# Altium schematic symbol library Resistor - Surface Mount - 0201.SchLib: 301 symbols (part 1 of 5)
Pins are listed as number, name and electrical type; pins without a type are passive.

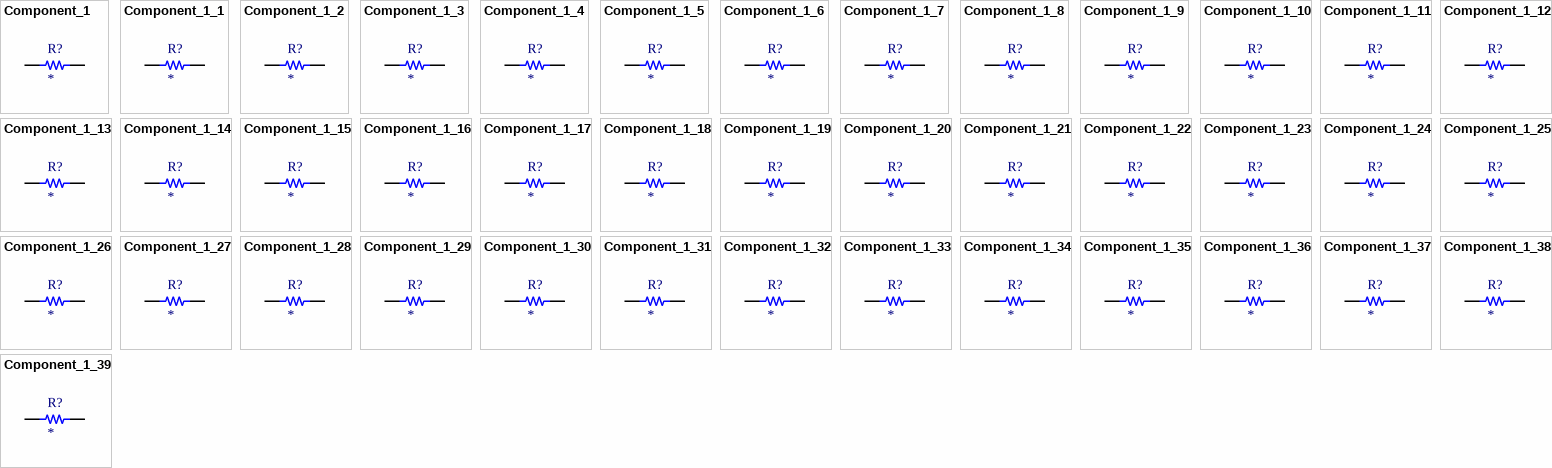
[diagram p0: symbols Component_1 to Component_1_39]

## Component_1
designator R?
Manufacturer: Yageo; Power (Watt): 0.05W; ComponentLink1Description: Datasheet; ComponentLink1URL: https://www.yageo.com/upload/media/product/products/datasheet/rchip/PYu-RC_Group_51_RoHS_L_12.pdf; ComponentLink2Description: Digikey link; ComponentLink2URL: *; ComponentLink3Description: LCSC link; ComponentLink3URL: *; Value: *; Part Number: *; Package: 0201 (0603 Metric); Tolerance: *; Operating Temperature: -55°C ~ 125°C
footprint R0201
pins: 1, 2

## Component_1_1
designator R?
Manufacturer: Yageo; Power (Watt): 0.05W; ComponentLink1Description: Datasheet; ComponentLink1URL: https://www.yageo.com/upload/media/product/products/datasheet/rchip/PYu-RC_Group_51_RoHS_L_12.pdf; ComponentLink2Description: Digikey link; ComponentLink2URL: *; ComponentLink3Description: LCSC link; ComponentLink3URL: *; Value: *; Part Number: *; Package: 0201 (0603 Metric); Tolerance: *; Operating Temperature: -55°C ~ 125°C
footprint R0201
pins: 1, 2

## Component_1_2
designator R?
Manufacturer: Yageo; Power (Watt): 0.05W; ComponentLink1Description: Datasheet; ComponentLink1URL: https://www.yageo.com/upload/media/product/products/datasheet/rchip/PYu-RC_Group_51_RoHS_L_12.pdf; ComponentLink2Description: Digikey link; ComponentLink2URL: *; ComponentLink3Description: LCSC link; ComponentLink3URL: *; Value: *; Part Number: *; Package: 0201 (0603 Metric); Tolerance: *; Operating Temperature: -55°C ~ 125°C
footprint R0201
pins: 1, 2

## Component_1_3
designator R?
Manufacturer: Yageo; Power (Watt): 0.05W; ComponentLink1Description: Datasheet; ComponentLink1URL: https://www.yageo.com/upload/media/product/products/datasheet/rchip/PYu-RC_Group_51_RoHS_L_12.pdf; ComponentLink2Description: Digikey link; ComponentLink2URL: *; ComponentLink3Description: LCSC link; ComponentLink3URL: *; Value: *; Part Number: *; Package: 0201 (0603 Metric); Tolerance: *; Operating Temperature: -55°C ~ 125°C
footprint R0201
pins: 1, 2

## Component_1_4
designator R?
Manufacturer: Yageo; Power (Watt): 0.05W; ComponentLink1Description: Datasheet; ComponentLink1URL: https://www.yageo.com/upload/media/product/products/datasheet/rchip/PYu-RC_Group_51_RoHS_L_12.pdf; ComponentLink2Description: Digikey link; ComponentLink2URL: *; ComponentLink3Description: LCSC link; ComponentLink3URL: *; Value: *; Part Number: *; Package: 0201 (0603 Metric); Tolerance: *; Operating Temperature: -55°C ~ 125°C
footprint R0201
pins: 1, 2

## Component_1_5
designator R?
Manufacturer: Yageo; Power (Watt): 0.05W; ComponentLink1Description: Datasheet; ComponentLink1URL: https://www.yageo.com/upload/media/product/products/datasheet/rchip/PYu-RC_Group_51_RoHS_L_12.pdf; ComponentLink2Description: Digikey link; ComponentLink2URL: *; ComponentLink3Description: LCSC link; ComponentLink3URL: *; Value: *; Part Number: *; Package: 0201 (0603 Metric); Tolerance: *; Operating Temperature: -55°C ~ 125°C
footprint R0201
pins: 1, 2

## Component_1_6
designator R?
Manufacturer: Yageo; Power (Watt): 0.05W; ComponentLink1Description: Datasheet; ComponentLink1URL: https://www.yageo.com/upload/media/product/products/datasheet/rchip/PYu-RC_Group_51_RoHS_L_12.pdf; ComponentLink2Description: Digikey link; ComponentLink2URL: *; ComponentLink3Description: LCSC link; ComponentLink3URL: *; Value: *; Part Number: *; Package: 0201 (0603 Metric); Tolerance: *; Operating Temperature: -55°C ~ 125°C
footprint R0201
pins: 1, 2

## Component_1_7
designator R?
Manufacturer: Yageo; Power (Watt): 0.05W; ComponentLink1Description: Datasheet; ComponentLink1URL: https://www.yageo.com/upload/media/product/products/datasheet/rchip/PYu-RC_Group_51_RoHS_L_12.pdf; ComponentLink2Description: Digikey link; ComponentLink2URL: *; ComponentLink3Description: LCSC link; ComponentLink3URL: *; Value: *; Part Number: *; Package: 0201 (0603 Metric); Tolerance: *; Operating Temperature: -55°C ~ 125°C
footprint R0201
pins: 1, 2

## Component_1_8
designator R?
Manufacturer: Yageo; Power (Watt): 0.05W; ComponentLink1Description: Datasheet; ComponentLink1URL: https://www.yageo.com/upload/media/product/products/datasheet/rchip/PYu-RC_Group_51_RoHS_L_12.pdf; ComponentLink2Description: Digikey link; ComponentLink2URL: *; ComponentLink3Description: LCSC link; ComponentLink3URL: *; Value: *; Part Number: *; Package: 0201 (0603 Metric); Tolerance: *; Operating Temperature: -55°C ~ 125°C
footprint R0201
pins: 1, 2

## Component_1_9
designator R?
Manufacturer: Yageo; Power (Watt): 0.05W; ComponentLink1Description: Datasheet; ComponentLink1URL: https://www.yageo.com/upload/media/product/products/datasheet/rchip/PYu-RC_Group_51_RoHS_L_12.pdf; ComponentLink2Description: Digikey link; ComponentLink2URL: *; ComponentLink3Description: LCSC link; ComponentLink3URL: *; Value: *; Part Number: *; Package: 0201 (0603 Metric); Tolerance: *; Operating Temperature: -55°C ~ 125°C
footprint R0201
pins: 1, 2

## Component_1_10
designator R?
Manufacturer: Yageo; Power (Watt): 0.05W; ComponentLink1Description: Datasheet; ComponentLink1URL: https://www.yageo.com/upload/media/product/products/datasheet/rchip/PYu-RC_Group_51_RoHS_L_12.pdf; ComponentLink2Description: Digikey link; ComponentLink2URL: *; ComponentLink3Description: LCSC link; ComponentLink3URL: *; Value: *; Part Number: *; Package: 0201 (0603 Metric); Tolerance: *; Operating Temperature: -55°C ~ 125°C
footprint R0201
pins: 1, 2

## Component_1_11
designator R?
Manufacturer: Yageo; Power (Watt): 0.05W; ComponentLink1Description: Datasheet; ComponentLink1URL: https://www.yageo.com/upload/media/product/products/datasheet/rchip/PYu-RC_Group_51_RoHS_L_12.pdf; ComponentLink2Description: Digikey link; ComponentLink2URL: *; ComponentLink3Description: LCSC link; ComponentLink3URL: *; Value: *; Part Number: *; Package: 0201 (0603 Metric); Tolerance: *; Operating Temperature: -55°C ~ 125°C
footprint R0201
pins: 1, 2

## Component_1_12
designator R?
Manufacturer: Yageo; Power (Watt): 0.05W; ComponentLink1Description: Datasheet; ComponentLink1URL: https://www.yageo.com/upload/media/product/products/datasheet/rchip/PYu-RC_Group_51_RoHS_L_12.pdf; ComponentLink2Description: Digikey link; ComponentLink2URL: *; ComponentLink3Description: LCSC link; ComponentLink3URL: *; Value: *; Part Number: *; Package: 0201 (0603 Metric); Tolerance: *; Operating Temperature: -55°C ~ 125°C
footprint R0201
pins: 1, 2

## Component_1_13
designator R?
Manufacturer: Yageo; Power (Watt): 0.05W; ComponentLink1Description: Datasheet; ComponentLink1URL: https://www.yageo.com/upload/media/product/products/datasheet/rchip/PYu-RC_Group_51_RoHS_L_12.pdf; ComponentLink2Description: Digikey link; ComponentLink2URL: *; ComponentLink3Description: LCSC link; ComponentLink3URL: *; Value: *; Part Number: *; Package: 0201 (0603 Metric); Tolerance: *; Operating Temperature: -55°C ~ 125°C
footprint R0201
pins: 1, 2

## Component_1_14
designator R?
Manufacturer: Yageo; Power (Watt): 0.05W; ComponentLink1Description: Datasheet; ComponentLink1URL: https://www.yageo.com/upload/media/product/products/datasheet/rchip/PYu-RC_Group_51_RoHS_L_12.pdf; ComponentLink2Description: Digikey link; ComponentLink2URL: *; ComponentLink3Description: LCSC link; ComponentLink3URL: *; Value: *; Part Number: *; Package: 0201 (0603 Metric); Tolerance: *; Operating Temperature: -55°C ~ 125°C
footprint R0201
pins: 1, 2

## Component_1_15
designator R?
Manufacturer: Yageo; Power (Watt): 0.05W; ComponentLink1Description: Datasheet; ComponentLink1URL: https://www.yageo.com/upload/media/product/products/datasheet/rchip/PYu-RC_Group_51_RoHS_L_12.pdf; ComponentLink2Description: Digikey link; ComponentLink2URL: *; ComponentLink3Description: LCSC link; ComponentLink3URL: *; Value: *; Part Number: *; Package: 0201 (0603 Metric); Tolerance: *; Operating Temperature: -55°C ~ 125°C
footprint R0201
pins: 1, 2

## Component_1_16
designator R?
Manufacturer: Yageo; Power (Watt): 0.05W; ComponentLink1Description: Datasheet; ComponentLink1URL: https://www.yageo.com/upload/media/product/products/datasheet/rchip/PYu-RC_Group_51_RoHS_L_12.pdf; ComponentLink2Description: Digikey link; ComponentLink2URL: *; ComponentLink3Description: LCSC link; ComponentLink3URL: *; Value: *; Part Number: *; Package: 0201 (0603 Metric); Tolerance: *; Operating Temperature: -55°C ~ 125°C
footprint R0201
pins: 1, 2

## Component_1_17
designator R?
Manufacturer: Yageo; Power (Watt): 0.05W; ComponentLink1Description: Datasheet; ComponentLink1URL: https://www.yageo.com/upload/media/product/products/datasheet/rchip/PYu-RC_Group_51_RoHS_L_12.pdf; ComponentLink2Description: Digikey link; ComponentLink2URL: *; ComponentLink3Description: LCSC link; ComponentLink3URL: *; Value: *; Part Number: *; Package: 0201 (0603 Metric); Tolerance: *; Operating Temperature: -55°C ~ 125°C
footprint R0201
pins: 1, 2

## Component_1_18
designator R?
Manufacturer: Yageo; Power (Watt): 0.05W; ComponentLink1Description: Datasheet; ComponentLink1URL: https://www.yageo.com/upload/media/product/products/datasheet/rchip/PYu-RC_Group_51_RoHS_L_12.pdf; ComponentLink2Description: Digikey link; ComponentLink2URL: *; ComponentLink3Description: LCSC link; ComponentLink3URL: *; Value: *; Part Number: *; Package: 0201 (0603 Metric); Tolerance: *; Operating Temperature: -55°C ~ 125°C
footprint R0201
pins: 1, 2

## Component_1_19
designator R?
Manufacturer: Yageo; Power (Watt): 0.05W; ComponentLink1Description: Datasheet; ComponentLink1URL: https://www.yageo.com/upload/media/product/products/datasheet/rchip/PYu-RC_Group_51_RoHS_L_12.pdf; ComponentLink2Description: Digikey link; ComponentLink2URL: *; ComponentLink3Description: LCSC link; ComponentLink3URL: *; Value: *; Part Number: *; Package: 0201 (0603 Metric); Tolerance: *; Operating Temperature: -55°C ~ 125°C
footprint R0201
pins: 1, 2

## Component_1_20
designator R?
Manufacturer: Yageo; Power (Watt): 0.05W; ComponentLink1Description: Datasheet; ComponentLink1URL: https://www.yageo.com/upload/media/product/products/datasheet/rchip/PYu-RC_Group_51_RoHS_L_12.pdf; ComponentLink2Description: Digikey link; ComponentLink2URL: *; ComponentLink3Description: LCSC link; ComponentLink3URL: *; Value: *; Part Number: *; Package: 0201 (0603 Metric); Tolerance: *; Operating Temperature: -55°C ~ 125°C
footprint R0201
pins: 1, 2

## Component_1_21
designator R?
Manufacturer: Yageo; Power (Watt): 0.05W; ComponentLink1Description: Datasheet; ComponentLink1URL: https://www.yageo.com/upload/media/product/products/datasheet/rchip/PYu-RC_Group_51_RoHS_L_12.pdf; ComponentLink2Description: Digikey link; ComponentLink2URL: *; ComponentLink3Description: LCSC link; ComponentLink3URL: *; Value: *; Part Number: *; Package: 0201 (0603 Metric); Tolerance: *; Operating Temperature: -55°C ~ 125°C
footprint R0201
pins: 1, 2

## Component_1_22
designator R?
Manufacturer: Yageo; Power (Watt): 0.05W; ComponentLink1Description: Datasheet; ComponentLink1URL: https://www.yageo.com/upload/media/product/products/datasheet/rchip/PYu-RC_Group_51_RoHS_L_12.pdf; ComponentLink2Description: Digikey link; ComponentLink2URL: *; ComponentLink3Description: LCSC link; ComponentLink3URL: *; Value: *; Part Number: *; Package: 0201 (0603 Metric); Tolerance: *; Operating Temperature: -55°C ~ 125°C
footprint R0201
pins: 1, 2

## Component_1_23
designator R?
Manufacturer: Yageo; Power (Watt): 0.05W; ComponentLink1Description: Datasheet; ComponentLink1URL: https://www.yageo.com/upload/media/product/products/datasheet/rchip/PYu-RC_Group_51_RoHS_L_12.pdf; ComponentLink2Description: Digikey link; ComponentLink2URL: *; ComponentLink3Description: LCSC link; ComponentLink3URL: *; Value: *; Part Number: *; Package: 0201 (0603 Metric); Tolerance: *; Operating Temperature: -55°C ~ 125°C
footprint R0201
pins: 1, 2

## Component_1_24
designator R?
Manufacturer: Yageo; Power (Watt): 0.05W; ComponentLink1Description: Datasheet; ComponentLink1URL: https://www.yageo.com/upload/media/product/products/datasheet/rchip/PYu-RC_Group_51_RoHS_L_12.pdf; ComponentLink2Description: Digikey link; ComponentLink2URL: *; ComponentLink3Description: LCSC link; ComponentLink3URL: *; Value: *; Part Number: *; Package: 0201 (0603 Metric); Tolerance: *; Operating Temperature: -55°C ~ 125°C
footprint R0201
pins: 1, 2

## Component_1_25
designator R?
Manufacturer: Yageo; Power (Watt): 0.05W; ComponentLink1Description: Datasheet; ComponentLink1URL: https://www.yageo.com/upload/media/product/products/datasheet/rchip/PYu-RC_Group_51_RoHS_L_12.pdf; ComponentLink2Description: Digikey link; ComponentLink2URL: *; ComponentLink3Description: LCSC link; ComponentLink3URL: *; Value: *; Part Number: *; Package: 0201 (0603 Metric); Tolerance: *; Operating Temperature: -55°C ~ 125°C
footprint R0201
pins: 1, 2

## Component_1_26
designator R?
Manufacturer: Yageo; Power (Watt): 0.05W; ComponentLink1Description: Datasheet; ComponentLink1URL: https://www.yageo.com/upload/media/product/products/datasheet/rchip/PYu-RC_Group_51_RoHS_L_12.pdf; ComponentLink2Description: Digikey link; ComponentLink2URL: *; ComponentLink3Description: LCSC link; ComponentLink3URL: *; Value: *; Part Number: *; Package: 0201 (0603 Metric); Tolerance: *; Operating Temperature: -55°C ~ 125°C
footprint R0201
pins: 1, 2

## Component_1_27
designator R?
Manufacturer: Yageo; Power (Watt): 0.05W; ComponentLink1Description: Datasheet; ComponentLink1URL: https://www.yageo.com/upload/media/product/products/datasheet/rchip/PYu-RC_Group_51_RoHS_L_12.pdf; ComponentLink2Description: Digikey link; ComponentLink2URL: *; ComponentLink3Description: LCSC link; ComponentLink3URL: *; Value: *; Part Number: *; Package: 0201 (0603 Metric); Tolerance: *; Operating Temperature: -55°C ~ 125°C
footprint R0201
pins: 1, 2

## Component_1_28
designator R?
Manufacturer: Yageo; Power (Watt): 0.05W; ComponentLink1Description: Datasheet; ComponentLink1URL: https://www.yageo.com/upload/media/product/products/datasheet/rchip/PYu-RC_Group_51_RoHS_L_12.pdf; ComponentLink2Description: Digikey link; ComponentLink2URL: *; ComponentLink3Description: LCSC link; ComponentLink3URL: *; Value: *; Part Number: *; Package: 0201 (0603 Metric); Tolerance: *; Operating Temperature: -55°C ~ 125°C
footprint R0201
pins: 1, 2

## Component_1_29
designator R?
Manufacturer: Yageo; Power (Watt): 0.05W; ComponentLink1Description: Datasheet; ComponentLink1URL: https://www.yageo.com/upload/media/product/products/datasheet/rchip/PYu-RC_Group_51_RoHS_L_12.pdf; ComponentLink2Description: Digikey link; ComponentLink2URL: *; ComponentLink3Description: LCSC link; ComponentLink3URL: *; Value: *; Part Number: *; Package: 0201 (0603 Metric); Tolerance: *; Operating Temperature: -55°C ~ 125°C
footprint R0201
pins: 1, 2

## Component_1_30
designator R?
Manufacturer: Yageo; Power (Watt): 0.05W; ComponentLink1Description: Datasheet; ComponentLink1URL: https://www.yageo.com/upload/media/product/products/datasheet/rchip/PYu-RC_Group_51_RoHS_L_12.pdf; ComponentLink2Description: Digikey link; ComponentLink2URL: *; ComponentLink3Description: LCSC link; ComponentLink3URL: *; Value: *; Part Number: *; Package: 0201 (0603 Metric); Tolerance: *; Operating Temperature: -55°C ~ 125°C
footprint R0201
pins: 1, 2

## Component_1_31
designator R?
Manufacturer: Yageo; Power (Watt): 0.05W; ComponentLink1Description: Datasheet; ComponentLink1URL: https://www.yageo.com/upload/media/product/products/datasheet/rchip/PYu-RC_Group_51_RoHS_L_12.pdf; ComponentLink2Description: Digikey link; ComponentLink2URL: *; ComponentLink3Description: LCSC link; ComponentLink3URL: *; Value: *; Part Number: *; Package: 0201 (0603 Metric); Tolerance: *; Operating Temperature: -55°C ~ 125°C
footprint R0201
pins: 1, 2

## Component_1_32
designator R?
Manufacturer: Yageo; Power (Watt): 0.05W; ComponentLink1Description: Datasheet; ComponentLink1URL: https://www.yageo.com/upload/media/product/products/datasheet/rchip/PYu-RC_Group_51_RoHS_L_12.pdf; ComponentLink2Description: Digikey link; ComponentLink2URL: *; ComponentLink3Description: LCSC link; ComponentLink3URL: *; Value: *; Part Number: *; Package: 0201 (0603 Metric); Tolerance: *; Operating Temperature: -55°C ~ 125°C
footprint R0201
pins: 1, 2

## Component_1_33
designator R?
Manufacturer: Yageo; Power (Watt): 0.05W; ComponentLink1Description: Datasheet; ComponentLink1URL: https://www.yageo.com/upload/media/product/products/datasheet/rchip/PYu-RC_Group_51_RoHS_L_12.pdf; ComponentLink2Description: Digikey link; ComponentLink2URL: *; ComponentLink3Description: LCSC link; ComponentLink3URL: *; Value: *; Part Number: *; Package: 0201 (0603 Metric); Tolerance: *; Operating Temperature: -55°C ~ 125°C
footprint R0201
pins: 1, 2

## Component_1_34
designator R?
Manufacturer: Yageo; Power (Watt): 0.05W; ComponentLink1Description: Datasheet; ComponentLink1URL: https://www.yageo.com/upload/media/product/products/datasheet/rchip/PYu-RC_Group_51_RoHS_L_12.pdf; ComponentLink2Description: Digikey link; ComponentLink2URL: *; ComponentLink3Description: LCSC link; ComponentLink3URL: *; Value: *; Part Number: *; Package: 0201 (0603 Metric); Tolerance: *; Operating Temperature: -55°C ~ 125°C
footprint R0201
pins: 1, 2

## Component_1_35
designator R?
Manufacturer: Yageo; Power (Watt): 0.05W; ComponentLink1Description: Datasheet; ComponentLink1URL: https://www.yageo.com/upload/media/product/products/datasheet/rchip/PYu-RC_Group_51_RoHS_L_12.pdf; ComponentLink2Description: Digikey link; ComponentLink2URL: *; ComponentLink3Description: LCSC link; ComponentLink3URL: *; Value: *; Part Number: *; Package: 0201 (0603 Metric); Tolerance: *; Operating Temperature: -55°C ~ 125°C
footprint R0201
pins: 1, 2

## Component_1_36
designator R?
Manufacturer: Yageo; Power (Watt): 0.05W; ComponentLink1Description: Datasheet; ComponentLink1URL: https://www.yageo.com/upload/media/product/products/datasheet/rchip/PYu-RC_Group_51_RoHS_L_12.pdf; ComponentLink2Description: Digikey link; ComponentLink2URL: *; ComponentLink3Description: LCSC link; ComponentLink3URL: *; Value: *; Part Number: *; Package: 0201 (0603 Metric); Tolerance: *; Operating Temperature: -55°C ~ 125°C
footprint R0201
pins: 1, 2

## Component_1_37
designator R?
Manufacturer: Yageo; Power (Watt): 0.05W; ComponentLink1Description: Datasheet; ComponentLink1URL: https://www.yageo.com/upload/media/product/products/datasheet/rchip/PYu-RC_Group_51_RoHS_L_12.pdf; ComponentLink2Description: Digikey link; ComponentLink2URL: *; ComponentLink3Description: LCSC link; ComponentLink3URL: *; Value: *; Part Number: *; Package: 0201 (0603 Metric); Tolerance: *; Operating Temperature: -55°C ~ 125°C
footprint R0201
pins: 1, 2

## Component_1_38
designator R?
Manufacturer: Yageo; Power (Watt): 0.05W; ComponentLink1Description: Datasheet; ComponentLink1URL: https://www.yageo.com/upload/media/product/products/datasheet/rchip/PYu-RC_Group_51_RoHS_L_12.pdf; ComponentLink2Description: Digikey link; ComponentLink2URL: *; ComponentLink3Description: LCSC link; ComponentLink3URL: *; Value: *; Part Number: *; Package: 0201 (0603 Metric); Tolerance: *; Operating Temperature: -55°C ~ 125°C
footprint R0201
pins: 1, 2

## Component_1_39
designator R?
Manufacturer: Yageo; Power (Watt): 0.05W; ComponentLink1Description: Datasheet; ComponentLink1URL: https://www.yageo.com/upload/media/product/products/datasheet/rchip/PYu-RC_Group_51_RoHS_L_12.pdf; ComponentLink2Description: Digikey link; ComponentLink2URL: *; ComponentLink3Description: LCSC link; ComponentLink3URL: *; Value: *; Part Number: *; Package: 0201 (0603 Metric); Tolerance: *; Operating Temperature: -55°C ~ 125°C
footprint R0201
pins: 1, 2

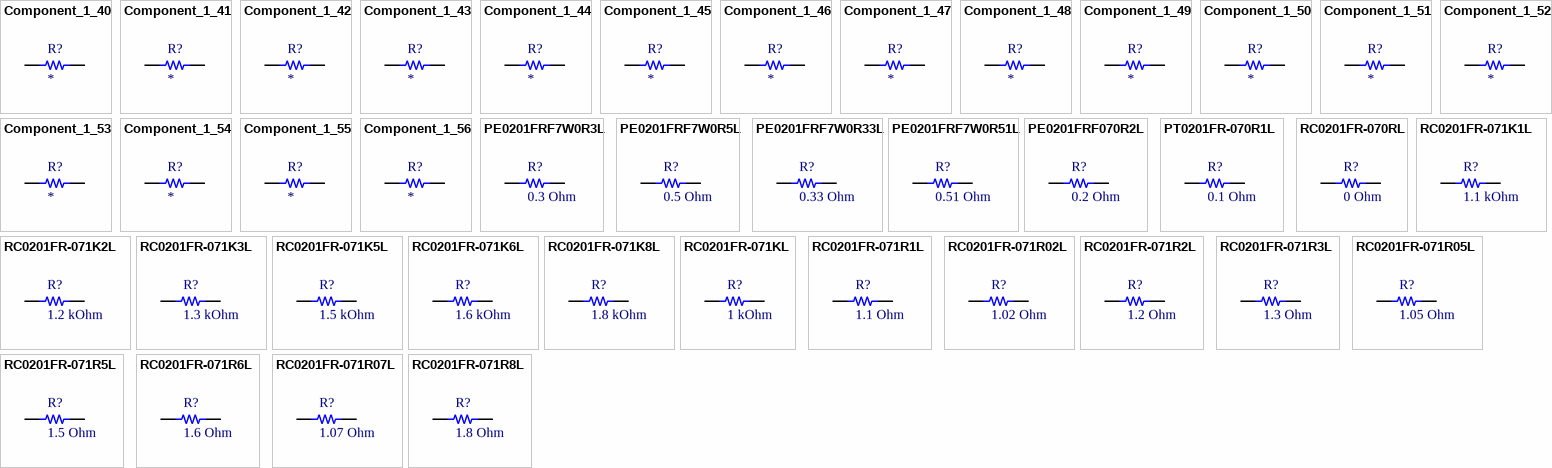
[diagram p1: symbols Component_1_40 to RC0201FR-071R8L]

## Component_1_40
designator R?
Manufacturer: Yageo; Power (Watt): 0.05W; ComponentLink1Description: Datasheet; ComponentLink1URL: https://www.yageo.com/upload/media/product/products/datasheet/rchip/PYu-RC_Group_51_RoHS_L_12.pdf; ComponentLink2Description: Digikey link; ComponentLink2URL: *; ComponentLink3Description: LCSC link; ComponentLink3URL: *; Value: *; Part Number: *; Package: 0201 (0603 Metric); Tolerance: *; Operating Temperature: -55°C ~ 125°C
footprint R0201
pins: 1, 2

## Component_1_41
designator R?
Manufacturer: Yageo; Power (Watt): 0.05W; ComponentLink1Description: Datasheet; ComponentLink1URL: https://www.yageo.com/upload/media/product/products/datasheet/rchip/PYu-RC_Group_51_RoHS_L_12.pdf; ComponentLink2Description: Digikey link; ComponentLink2URL: *; ComponentLink3Description: LCSC link; ComponentLink3URL: *; Value: *; Part Number: *; Package: 0201 (0603 Metric); Tolerance: *; Operating Temperature: -55°C ~ 125°C
footprint R0201
pins: 1, 2

## Component_1_42
designator R?
Manufacturer: Yageo; Power (Watt): 0.05W; ComponentLink1Description: Datasheet; ComponentLink1URL: https://www.yageo.com/upload/media/product/products/datasheet/rchip/PYu-RC_Group_51_RoHS_L_12.pdf; ComponentLink2Description: Digikey link; ComponentLink2URL: *; ComponentLink3Description: LCSC link; ComponentLink3URL: *; Value: *; Part Number: *; Package: 0201 (0603 Metric); Tolerance: *; Operating Temperature: -55°C ~ 125°C
footprint R0201
pins: 1, 2

## Component_1_43
designator R?
Manufacturer: Yageo; Power (Watt): 0.05W; ComponentLink1Description: Datasheet; ComponentLink1URL: https://www.yageo.com/upload/media/product/products/datasheet/rchip/PYu-RC_Group_51_RoHS_L_12.pdf; ComponentLink2Description: Digikey link; ComponentLink2URL: *; ComponentLink3Description: LCSC link; ComponentLink3URL: *; Value: *; Part Number: *; Package: 0201 (0603 Metric); Tolerance: *; Operating Temperature: -55°C ~ 125°C
footprint R0201
pins: 1, 2

## Component_1_44
designator R?
Manufacturer: Yageo; Power (Watt): 0.05W; ComponentLink1Description: Datasheet; ComponentLink1URL: https://www.yageo.com/upload/media/product/products/datasheet/rchip/PYu-RC_Group_51_RoHS_L_12.pdf; ComponentLink2Description: Digikey link; ComponentLink2URL: *; ComponentLink3Description: LCSC link; ComponentLink3URL: *; Value: *; Part Number: *; Package: 0201 (0603 Metric); Tolerance: *; Operating Temperature: -55°C ~ 125°C
footprint R0201
pins: 1, 2

## Component_1_45
designator R?
Manufacturer: Yageo; Power (Watt): 0.05W; ComponentLink1Description: Datasheet; ComponentLink1URL: https://www.yageo.com/upload/media/product/products/datasheet/rchip/PYu-RC_Group_51_RoHS_L_12.pdf; ComponentLink2Description: Digikey link; ComponentLink2URL: *; ComponentLink3Description: LCSC link; ComponentLink3URL: *; Value: *; Part Number: *; Package: 0201 (0603 Metric); Tolerance: *; Operating Temperature: -55°C ~ 125°C
footprint R0201
pins: 1, 2

## Component_1_46
designator R?
Manufacturer: Yageo; Power (Watt): 0.05W; ComponentLink1Description: Datasheet; ComponentLink1URL: https://www.yageo.com/upload/media/product/products/datasheet/rchip/PYu-RC_Group_51_RoHS_L_12.pdf; ComponentLink2Description: Digikey link; ComponentLink2URL: *; ComponentLink3Description: LCSC link; ComponentLink3URL: *; Value: *; Part Number: *; Package: 0201 (0603 Metric); Tolerance: *; Operating Temperature: -55°C ~ 125°C
footprint R0201
pins: 1, 2

## Component_1_47
designator R?
Manufacturer: Yageo; Power (Watt): 0.05W; ComponentLink1Description: Datasheet; ComponentLink1URL: https://www.yageo.com/upload/media/product/products/datasheet/rchip/PYu-RC_Group_51_RoHS_L_12.pdf; ComponentLink2Description: Digikey link; ComponentLink2URL: *; ComponentLink3Description: LCSC link; ComponentLink3URL: *; Value: *; Part Number: *; Package: 0201 (0603 Metric); Tolerance: *; Operating Temperature: -55°C ~ 125°C
footprint R0201
pins: 1, 2

## Component_1_48
designator R?
Manufacturer: Yageo; Power (Watt): 0.05W; ComponentLink1Description: Datasheet; ComponentLink1URL: https://www.yageo.com/upload/media/product/products/datasheet/rchip/PYu-RC_Group_51_RoHS_L_12.pdf; ComponentLink2Description: Digikey link; ComponentLink2URL: *; ComponentLink3Description: LCSC link; ComponentLink3URL: *; Value: *; Part Number: *; Package: 0201 (0603 Metric); Tolerance: *; Operating Temperature: -55°C ~ 125°C
footprint R0201
pins: 1, 2

## Component_1_49
designator R?
Manufacturer: Yageo; Power (Watt): 0.05W; ComponentLink1Description: Datasheet; ComponentLink1URL: https://www.yageo.com/upload/media/product/products/datasheet/rchip/PYu-RC_Group_51_RoHS_L_12.pdf; ComponentLink2Description: Digikey link; ComponentLink2URL: *; ComponentLink3Description: LCSC link; ComponentLink3URL: *; Value: *; Part Number: *; Package: 0201 (0603 Metric); Tolerance: *; Operating Temperature: -55°C ~ 125°C
footprint R0201
pins: 1, 2

## Component_1_50
designator R?
Manufacturer: Yageo; Power (Watt): 0.05W; ComponentLink1Description: Datasheet; ComponentLink1URL: https://www.yageo.com/upload/media/product/products/datasheet/rchip/PYu-RC_Group_51_RoHS_L_12.pdf; ComponentLink2Description: Digikey link; ComponentLink2URL: *; ComponentLink3Description: LCSC link; ComponentLink3URL: *; Value: *; Part Number: *; Package: 0201 (0603 Metric); Tolerance: *; Operating Temperature: -55°C ~ 125°C
footprint R0201
pins: 1, 2

## Component_1_51
designator R?
Manufacturer: Yageo; Power (Watt): 0.05W; ComponentLink1Description: Datasheet; ComponentLink1URL: https://www.yageo.com/upload/media/product/products/datasheet/rchip/PYu-RC_Group_51_RoHS_L_12.pdf; ComponentLink2Description: Digikey link; ComponentLink2URL: *; ComponentLink3Description: LCSC link; ComponentLink3URL: *; Value: *; Part Number: *; Package: 0201 (0603 Metric); Tolerance: *; Operating Temperature: -55°C ~ 125°C
footprint R0201
pins: 1, 2

## Component_1_52
designator R?
Manufacturer: Yageo; Power (Watt): 0.05W; ComponentLink1Description: Datasheet; ComponentLink1URL: https://www.yageo.com/upload/media/product/products/datasheet/rchip/PYu-RC_Group_51_RoHS_L_12.pdf; ComponentLink2Description: Digikey link; ComponentLink2URL: *; ComponentLink3Description: LCSC link; ComponentLink3URL: *; Value: *; Part Number: *; Package: 0201 (0603 Metric); Tolerance: *; Operating Temperature: -55°C ~ 125°C
footprint R0201
pins: 1, 2

## Component_1_53
designator R?
Manufacturer: Yageo; Power (Watt): 0.05W; ComponentLink1Description: Datasheet; ComponentLink1URL: https://www.yageo.com/upload/media/product/products/datasheet/rchip/PYu-RC_Group_51_RoHS_L_12.pdf; ComponentLink2Description: Digikey link; ComponentLink2URL: *; ComponentLink3Description: LCSC link; ComponentLink3URL: *; Value: *; Part Number: *; Package: 0201 (0603 Metric); Tolerance: *; Operating Temperature: -55°C ~ 125°C
footprint R0201
pins: 1, 2

## Component_1_54
designator R?
Manufacturer: Yageo; Power (Watt): 0.05W; ComponentLink1Description: Datasheet; ComponentLink1URL: https://www.yageo.com/upload/media/product/products/datasheet/rchip/PYu-RC_Group_51_RoHS_L_12.pdf; ComponentLink2Description: Digikey link; ComponentLink2URL: *; ComponentLink3Description: LCSC link; ComponentLink3URL: *; Value: *; Part Number: *; Package: 0201 (0603 Metric); Tolerance: *; Operating Temperature: -55°C ~ 125°C
footprint R0201
pins: 1, 2

## Component_1_55
designator R?
Manufacturer: Yageo; Power (Watt): 0.05W; ComponentLink1Description: Datasheet; ComponentLink1URL: https://www.yageo.com/upload/media/product/products/datasheet/rchip/PYu-RC_Group_51_RoHS_L_12.pdf; ComponentLink2Description: Digikey link; ComponentLink2URL: *; ComponentLink3Description: LCSC link; ComponentLink3URL: *; Value: *; Part Number: *; Package: 0201 (0603 Metric); Tolerance: *; Operating Temperature: -55°C ~ 125°C
footprint R0201
pins: 1, 2

## Component_1_56
designator R?
Manufacturer: Yageo; Power (Watt): 0.05W; ComponentLink1Description: Datasheet; ComponentLink1URL: https://www.yageo.com/upload/media/product/products/datasheet/rchip/PYu-RC_Group_51_RoHS_L_12.pdf; ComponentLink2Description: Digikey link; ComponentLink2URL: *; ComponentLink3Description: LCSC link; ComponentLink3URL: *; Value: *; Part Number: *; Package: 0201 (0603 Metric); Tolerance: *; Operating Temperature: -55°C ~ 125°C
footprint R0201
pins: 1, 2

## PE0201FRF7W0R3L
designator R?, comment 0.3 Ohm
RES 0.3 OHM 1% 1/10W 0201; Manufacturer: Yageo; Part Number: PE0201FRF7W0R3L; Power (Watt): 0.1W; Value: 0.3 Ohm; Package: 0201 (0603 Metric); Tolerance: ±1%; Operating Temperature: -55°C ~ 125°C; ComponentLink1Description: Datasheet; ComponentLink1URL: https://www.yageo.com/upload/media/product/products/datasheet/rchip/PYu-RC_Group_51_RoHS_L_12.pdf; ComponentLink2Description: Digikey link; ComponentLink2URL: https://www.digikey.com/en/products/detail/yageo/PE0201FRF7W0R3L/21620722?s=N4IgjCBcoMxaBjKAzAhgGwM4FMA0IB7KAbXDBgnwCYBWABjgF18AHAFyhAGU2AnASwB2AcxABffGABs8EEkhoseQiRAwAnHQDsADhDMQ7TjwEjx1Ojpqz5inPiKRSMOnQAEAWwDyACw%2BZ9Vg5IEABVQX42L2QAWWxUTABXXmxxCRAqVQBPVGFsAjcUzH5MNgJeN0CQGWgQfgATTipLayDOcMjouITk1Pw2LJZUkISkfABHAc40oA; ComponentLink3Description: LCSC link; ComponentLink3URL: *; Supplier 1: DigiKey; Supplier Part Number 1: 13-PE0201FRF7W0R3LTR-ND
footprint R0201
pins: 1, 2

## PE0201FRF7W0R5L
designator R?, comment 0.5 Ohm
RES 0.5 OHM 1% 1/10W 0201; Manufacturer: Yageo; Part Number: PE0201FRF7W0R5L; Power (Watt): 0.1W; Value: 0.5 Ohm; Package: 0201 (0603 Metric); Tolerance: ±1%; Operating Temperature: -55°C ~ 125°C; ComponentLink1Description: Datasheet; ComponentLink1URL: https://www.yageo.com/upload/media/product/products/datasheet/rchip/PYu-RC_Group_51_RoHS_L_12.pdf; ComponentLink2Description: Digikey link; ComponentLink2URL: https://www.digikey.com/en/products/detail/yageo/PE0201FRF7W0R5L/17020270?s=N4IgjCBcoMxaBjKAzAhgGwM4FMA0IB7KAbXDBgnwCYBWABjgF18AHAFyhAGU2AnASwB2AcxABffGABs8EEkhoseQiRAwAnHQDsADhDMQ7TjwEjx1Ojpqz5inPiKRS9OgAIAtgHkAFu8z7WDkgQAFVBfjZPZABZbFRMAFdebHEJECpVAE9UYWwCV2TMfkw2Al5XAJAZaBB%2BABNOKktrQM4wiKjY%2BKSU-DZMlhTg%2BKR8AEd%2BzlSgA; ComponentLink3Description: LCSC link; ComponentLink3URL: https://lcsc.com/product-detail/Current-Sense-Resistors-Shunt-Resistors_YAGEO-PE0201FRF7W0R5L_C20160523.html?s_z=n_PE0201FRF7W0R5L; Supplier 1: Digikey; Supplier Part Number 1: 13-PE0201FRF7W0R5LCT-ND
footprint R0201
pins: 1, 2

## PE0201FRF7W0R33L
designator R?, comment 0.33 Ohm
RES 0.33 OHM 1% 1/10W 0201; Manufacturer: Yageo; Part Number: PE0201FRF7W0R33L; Power (Watt): 0.1W; Value: 0.33 Ohm; Package: 0201 (0603 Metric); Tolerance: ±1%; Operating Temperature: -55°C ~ 125°C; ComponentLink1Description: Datasheet; ComponentLink1URL: https://www.yageo.com/upload/media/product/products/datasheet/rchip/PYu-RC_Group_51_RoHS_L_12.pdf; ComponentLink2Description: Digikey link; ComponentLink2URL: https://www.digikey.com/en/products/detail/yageo/PE0201FRF7W0R33L/21620784?s=N4IgjCBcoMxaBjKAzAhgGwM4FMA0IB7KAbXDBgnwCYBWABjgF18AHAFyhAGU2AnASwB2AcxABffGABs8EEkhoseQiRAwAnHQDsADhDMQ7TjwEjx1Ojpqz5inPiKRSMGHQAEAWwDyACw%2BZ9Vg5IEABVQX42L2QAWWxUTABXXmxxCRAqVQBPVGFsAjcUzH5MNgJeN0CQGWgQfgATTipLayDOcMjouITk1Pw2LJZUkISkfABHAc40oA; ComponentLink3Description: LCSC link; ComponentLink3URL: *; Supplier 1: DigiKey; Supplier Part Number 1: 13-PE0201FRF7W0R33LTR-ND
footprint R0201
pins: 1, 2

## PE0201FRF7W0R51L
designator R?, comment 0.51 Ohm
RES 0.51 OHM 1% 1/10W 0201; Manufacturer: Yageo; Part Number: PE0201FRF7W0R51L; Power (Watt): 0.1W; Value: 0.51 Ohm; Package: 0201 (0603 Metric); Tolerance: ±1%; Operating Temperature: -55°C ~ 125°C; ComponentLink1Description: Datasheet; ComponentLink1URL: https://www.yageo.com/upload/media/product/products/datasheet/rchip/PYu-RC_Group_51_RoHS_L_12.pdf; ComponentLink2Description: Digikey link; ComponentLink2URL: https://www.digikey.com/en/products/detail/yageo/PE0201FRF7W0R51L/15220018?s=N4IgjCBcoMxaBjKAzAhgGwM4FMA0IB7KAbXDBgnwCYBWABjgF18AHAFyhAGU2AnASwB2AcxABffGABs8EEkhoseQiRAwAnHQDsADhDMQ7TjwEjx1Ojpqz5inPiKRSNMHQAEAWwDyACw%2BZ9Vg5IEABVQX42L2QAWWxUTABXXmxxCRAqVQBPVGFsAjcUzH5MNgJeN0CQGWgQfgATTipLayDOcMjouITk1Pw2LJZUkISkfABHAc40oA; ComponentLink3Description: LCSC link; ComponentLink3URL: https://lcsc.com/product-detail/Chip-Resistor-Surface-Mount_YAGEO-PE0201FRF7W0R51L_C4204644.html?s_z=n_PE0201FRF7W0R51L; Supplier 1: Digikey; Supplier Part Number 1: 13-PE0201FRF7W0R51LCT-ND
footprint R0201
pins: 1, 2

## PE0201FRF070R2L
designator R?, comment 0.2 Ohm
RES 0.2 OHM 1% 1/20W 0201; Manufacturer: Yageo; Part Number: PE0201FRF070R2L; Power (Watt): 0.05W; Value: 0.2 Ohm; Package: 0201 (0603 Metric); Tolerance: ±1%; Operating Temperature: -55°C ~ 125°C; ComponentLink1Description: Datasheet; ComponentLink1URL: https://www.yageo.com/upload/media/product/products/datasheet/rchip/PYu-RC_Group_51_RoHS_L_12.pdf; ComponentLink2Description: Digikey link; ComponentLink2URL: https://www.digikey.com/en/products/detail/yageo/PE0201FRF070R2L/5913683; ComponentLink3Description: LCSC link; ComponentLink3URL: https://lcsc.com/product-detail/Chip-Resistor-Surface-Mount_YAGEO-PE0201FRF070R2L_C1700035.html?s_z=n_PE0201FRF070R2L; Supplier 1: Digikey; Supplier Part Number 1: 13-PE0201FRF070R2LCT-ND
footprint R0201
pins: 1, 2

## PT0201FR-070R1L
designator R?, comment 0.1 Ohm
RES 0.1 OHM 1% 1/20W 0201; Manufacturer: Yageo; Part Number: PT0201FR-070R1L; Power (Watt): 0.05W; Value: 0.1 Ohm; Package: 0201 (0603 Metric); Tolerance: ±1%; Operating Temperature: -55°C ~ 125°C; ComponentLink1Description: Datasheet; ComponentLink1URL: https://www.yageo.com/upload/media/product/products/datasheet/rchip/PYu-RC_Group_51_RoHS_L_12.pdf; ComponentLink2Description: Digikey link; ComponentLink2URL: https://www.digikey.com/en/products/detail/yageo/PT0201FR-070R1L/17011337; ComponentLink3Description: LCSC link; ComponentLink3URL: https://lcsc.com/product-detail/Chip-Resistor-Surface-Mount_YAGEO-PT0201FR-070R1L_C6148971.html?s_z=n_PT0201FR-070R1L; Supplier 1: Digikey; Supplier Part Number 1: 13-PT0201FR-070R1L-ND
footprint R0201
pins: 1, 2

## RC0201FR-070RL
designator R?, comment 0 Ohm
RES 0 OHM JUMPER 1/20W 0201; Manufacturer: Yageo; Part Number: RC0201FR-070RL; Tolerance: ±1%; Power (Watt): 50mW; Value: 0 Ohm; Package: 0201 (0603 Metric); Operating Temperature: -55℃~+125℃; ComponentLink1Description: Datasheet; ComponentLink1URL: https://www.yageo.com/upload/media/product/products/datasheet/rchip/PYu-RC_Group_51_RoHS_L_12.pdf; ComponentLink2Description: Digikey link; ComponentLink2URL: https://www.digikey.com/en/products/detail/yageo/RC0201FR-070RL/1948858?s=N4IgTCBcDaIEoGEAMYkEYBicC0SDsScAMiALoC%2BQA; ComponentLink3Description: LCSC link; ComponentLink3URL: https://lcsc.com/product-detail/Chip-Resistor-Surface-Mount_YAGEO-RC0201FR-070RL_C106227.html?s_z=n_0R%25200201%2520resistor%2520yageo; Supplier 1: Digikey; Supplier Part Number 1: 311-0.0MCT-ND
footprint R0201
footprint R0201
pins: 1, 2

## RC0201FR-071K1L
designator R?, comment 1.1 kOhm
RES 1.1K OHM 1% 1/20W 0201; Manufacturer: Yageo; Part Number: RC0201FR-071K1L; Power (Watt): 0.05W; ComponentLink1Description: Datasheet; ComponentLink1URL: https://www.yageo.com/upload/media/product/products/datasheet/rchip/PYu-RC_Group_51_RoHS_L_12.pdf; ComponentLink2Description: Digikey link; ComponentLink2URL: https://www.digikey.com/en/products/detail/yageo/RC0201FR-071K1L/5280334; ComponentLink3Description: LCSC link; ComponentLink3URL: https://lcsc.com/product-detail/Chip-Resistor-Surface-Mount_YAGEO-RC0201FR-071K1L_C295782.html?s_z=n_RC0201FR-071K1L; Value: 1.1 kOhm; Package: 0201 (0603 Metric); Tolerance: ±1%; Operating Temperature: -55°C ~ 125°C; Supplier 1: Digikey; Supplier Part Number 1: YAG2474CT-ND
footprint R0201
pins: 1, 2

## RC0201FR-071K2L
designator R?, comment 1.2 kOhm
RES 1.2K OHM 1% 1/20W 0201; Manufacturer: Yageo; Part Number: RC0201FR-071K2L; Power (Watt): 0.05W; ComponentLink1Description: Datasheet; ComponentLink1URL: https://www.yageo.com/upload/media/product/products/datasheet/rchip/PYu-RC_Group_51_RoHS_L_12.pdf; ComponentLink2Description: Digikey link; ComponentLink2URL: https://www.digikey.com/en/products/detail/yageo/RC0201FR-071K2L/5280338; ComponentLink3Description: LCSC link; ComponentLink3URL: https://lcsc.com/product-detail/Chip-Resistor-Surface-Mount_YAGEO-RC0201FR-071K2L_C327393.html?s_z=n_RC0201FR-071K2L; Value: 1.2 kOhm; Package: 0201 (0603 Metric); Tolerance: ±1%; Operating Temperature: -55°C ~ 125°C; Supplier 1: Future Electronics; Supplier Part Number 1: 8559304
footprint R0201
pins: 1, 2

## RC0201FR-071K3L
designator R?, comment 1.3 kOhm
RES 1.3K OHM 1% 1/20W 0201; Manufacturer: Yageo; Part Number: RC0201FR-071K3L; Power (Watt): 0.05W; ComponentLink1Description: Datasheet; ComponentLink1URL: https://www.yageo.com/upload/media/product/products/datasheet/rchip/PYu-RC_Group_51_RoHS_L_12.pdf; ComponentLink2Description: Digikey link; ComponentLink2URL: https://www.digikey.com/en/products/detail/yageo/RC0201FR-071K3L/3202386; ComponentLink3Description: LCSC link; ComponentLink3URL: https://lcsc.com/product-detail/Chip-Resistor-Surface-Mount_YAGEO-RC0201FR-071K3L_C295783.html?s_z=n_RC0201FR-071K3L; Value: 1.3 kOhm; Package: 0201 (0603 Metric); Tolerance: ±1%; Operating Temperature: -55°C ~ 125°C; Supplier 1: Future Electronics; Supplier Part Number 1: 9258682
footprint R0201
pins: 1, 2

## RC0201FR-071K5L
designator R?, comment 1.5 kOhm
RES 1.5K OHM 1% 1/20W 0201; Manufacturer: Yageo; Part Number: RC0201FR-071K5L; Power (Watt): 0.05W; ComponentLink1Description: Datasheet; ComponentLink1URL: https://www.yageo.com/upload/media/product/products/datasheet/rchip/PYu-RC_Group_51_RoHS_L_12.pdf; ComponentLink2Description: Digikey link; ComponentLink2URL: https://www.digikey.com/en/products/detail/yageo/RC0201FR-071K5L/3202387; ComponentLink3Description: LCSC link; ComponentLink3URL: https://lcsc.com/product-detail/Chip-Resistor-Surface-Mount_YAGEO-RC0201FR-071K5L_C155737.html?s_z=n_RC0201FR-071K5L; Value: 1.5 kOhm; Package: 0201 (0603 Metric); Tolerance: ±1%; Operating Temperature: -55°C ~ 125°C; Supplier 1: Digikey; Supplier Part Number 1: YAG2274CT-ND
footprint R0201
pins: 1, 2

## RC0201FR-071K6L
designator R?, comment 1.6 kOhm
RES 1.6K OHM 1% 1/20W 0201; Manufacturer: Yageo; Part Number: RC0201FR-071K6L; Power (Watt): 0.05W; ComponentLink1Description: Datasheet; ComponentLink1URL: https://www.yageo.com/upload/media/product/products/datasheet/rchip/PYu-RC_Group_51_RoHS_L_12.pdf; ComponentLink2Description: Digikey link; ComponentLink2URL: https://www.digikey.com/en/products/detail/yageo/RC0201FR-071K6L/5280348; ComponentLink3Description: LCSC link; ComponentLink3URL: https://lcsc.com/product-detail/Chip-Resistor-Surface-Mount_YAGEO-RC0201FR-071K6L_C295784.html?s_z=n_RC0201FR-071K6L; Value: 1.6 kOhm; Package: 0201 (0603 Metric); Tolerance: ±1%; Operating Temperature: -55°C ~ 125°C; Supplier 1: Digikey; Supplier Part Number 1: YAG2488CT-ND
footprint R0201
pins: 1, 2

## RC0201FR-071K8L
designator R?, comment 1.8 kOhm
RES 1.8K OHM 1% 1/20W 0201; Manufacturer: Yageo; Part Number: RC0201FR-071K8L; Power (Watt): 0.05W; ComponentLink1Description: Datasheet; ComponentLink1URL: https://www.yageo.com/upload/media/product/products/datasheet/rchip/PYu-RC_Group_51_RoHS_L_12.pdf; ComponentLink2Description: Digikey link; ComponentLink2URL: https://www.digikey.com/en/products/detail/yageo/RC0201FR-071K8L/5280352; ComponentLink3Description: LCSC link; ComponentLink3URL: https://lcsc.com/product-detail/Chip-Resistor-Surface-Mount_YAGEO-RC0201FR-071K8L_C295785.html?s_z=n_RC0201FR-071K8L; Value: 1.8 kOhm; Package: 0201 (0603 Metric); Tolerance: ±1%; Operating Temperature: -55°C ~ 125°C; Supplier 1: Digikey; Supplier Part Number 1: YAG2492CT-ND
footprint R0201
pins: 1, 2

## RC0201FR-071KL
designator R?, comment 1 kOhm
RES 1K OHM 1% 1/20W 0201; Manufacturer: Yageo; Part Number: RC0201FR-071KL; Power (Watt): 0.05W; ComponentLink1Description: Datasheet; ComponentLink1URL: https://www.yageo.com/upload/media/product/products/datasheet/rchip/PYu-RC_Group_51_RoHS_L_12.pdf; ComponentLink2Description: Digikey link; ComponentLink2URL: https://www.digikey.com/en/products/detail/yageo/RC0201FR-071KL/3202389; ComponentLink3Description: LCSC link; ComponentLink3URL: https://lcsc.com/product-detail/Chip-Resistor-Surface-Mount_YAGEO-RC0201FR-071KL_C138165.html?s_z=n_RC0201FR-071KL; Value: 1 kOhm; Package: 0201 (0603 Metric); Tolerance: ±1%; Operating Temperature: -55°C ~ 125°C; Supplier 1: Future Electronics; Supplier Part Number 1: 5436639
footprint R0201
pins: 1, 2

## RC0201FR-071R1L
designator R?, comment 1.1 Ohm
RES 1.1 OHM 1% 1/20W 0201; Manufacturer: Yageo; Part Number: RC0201FR-071R1L; Power (Watt): 0.05W; Value: 1.1 Ohm; Package: 0201 (0603 Metric); Tolerance: ±1%; Operating Temperature: -55°C ~ 125°C; ComponentLink1Description: Datasheet; ComponentLink1URL: https://www.yageo.com/upload/media/product/products/datasheet/rchip/PYu-RC_Group_51_RoHS_L_12.pdf; ComponentLink2Description: Digikey link; ComponentLink2URL: https://www.digikey.com/en/products/detail/yageo/RC0201FR-071R1L/5917058; ComponentLink3Description: LCSC link; ComponentLink3URL: *; Supplier 1: Digikey; Supplier Part Number 1: RC0201FR-071R1L-ND
footprint R0201
pins: 1, 2

## RC0201FR-071R02L
designator R?, comment 1.02 Ohm
RES 1.02 OHM 1% 1/20W 0201; Manufacturer: Yageo; Part Number: RC0201FR-071R02L; Power (Watt): 0.05W; Value: 1.02 Ohm; Package: 0201 (0603 Metric); Tolerance: ±1%; Operating Temperature: -55°C ~ 125°C; ComponentLink1Description: Datasheet; ComponentLink1URL: https://www.yageo.com/upload/media/product/products/datasheet/rchip/PYu-RC_Group_51_RoHS_L_12.pdf; ComponentLink2Description: Digikey link; ComponentLink2URL: https://www.digikey.com/en/products/detail/yageo/RC0201FR-071R02L/17014117; ComponentLink3Description: LCSC link; ComponentLink3URL: https://lcsc.com/product-detail/Chip-Resistor-Surface-Mount_YAGEO-RC0201FR-071R02L_C6961062.html?s_z=n_RC0201FR-071R02L; Supplier 1: Digikey; Supplier Part Number 1: 13-RC0201FR-071R02L-ND
footprint R0201
pins: 1, 2

## RC0201FR-071R2L
designator R?, comment 1.2 Ohm
RES 1.2 OHM 1% 1/20W 0201; Manufacturer: Yageo; Part Number: RC0201FR-071R2L; Power (Watt): 0.05W; Value: 1.2 Ohm; Package: 0201 (0603 Metric); Tolerance: ±1%; Operating Temperature: -55°C ~ 125°C; ComponentLink1Description: Datasheet; ComponentLink1URL: https://www.yageo.com/upload/media/product/products/datasheet/rchip/PYu-RC_Group_51_RoHS_L_12.pdf; ComponentLink2Description: Digikey link; ComponentLink2URL: https://www.digikey.com/en/products/detail/yageo/RC0201FR-071R2L/5917060; ComponentLink3Description: LCSC link; ComponentLink3URL: https://lcsc.com/product-detail/Chip-Resistor-Surface-Mount_YAGEO-RC0201FR-071R2L_C474463.html?s_z=n_RC0201FR-071R2L; Supplier 1: Digikey; Supplier Part Number 1: 13-RC0201FR-071R2LCT-ND
footprint R0201
pins: 1, 2

## RC0201FR-071R3L
designator R?, comment 1.3 Ohm
RES 1.3 OHM 1% 1/20W 0201; Manufacturer: Yageo; Part Number: RC0201FR-071R3L; Power (Watt): 0.05W; Value: 1.3 Ohm; Package: 0201 (0603 Metric); Tolerance: ±1%; Operating Temperature: -55°C ~ 125°C; ComponentLink1Description: Datasheet; ComponentLink1URL: https://www.yageo.com/upload/media/product/products/datasheet/rchip/PYu-RC_Group_51_RoHS_L_12.pdf; ComponentLink2Description: Digikey link; ComponentLink2URL: https://www.digikey.com/en/products/detail/yageo/RC0201FR-071R3L/5917061; ComponentLink3Description: LCSC link; ComponentLink3URL: *; Supplier 1: Digikey; Supplier Part Number 1: 13-RC0201FR-071R3LCT-ND
footprint R0201
pins: 1, 2

## RC0201FR-071R05L
designator R?, comment 1.05 Ohm
RES 1.05 OHM 1% 1/20W 0201; Manufacturer: Yageo; Part Number: RC0201FR-071R05L; Power (Watt): 0.05W; Value: 1.05 Ohm; Package: 0201 (0603 Metric); Tolerance: ±1%; Operating Temperature: -55°C ~ 125°C; ComponentLink1Description: Datasheet; ComponentLink1URL: https://www.yageo.com/upload/media/product/products/datasheet/rchip/PYu-RC_Group_51_RoHS_L_12.pdf; ComponentLink2Description: Digikey link; ComponentLink2URL: https://www.digikey.com/en/products/detail/yageo/RC0201FR-071R05L/17010823; ComponentLink3Description: LCSC link; ComponentLink3URL: https://lcsc.com/product-detail/Chip-Resistor-Surface-Mount_YAGEO-RC0201FR-071R05L_C5842669.html?s_z=n_RC0201FR-071R05L; Supplier 1: Digikey; Supplier Part Number 1: 13-RC0201FR-071R05L-ND
pins: 1, 2

## RC0201FR-071R5L
designator R?, comment 1.5 Ohm
RES 1.5 OHM 1% 1/20W 0201; Manufacturer: Yageo; Part Number: RC0201FR-071R5L; Power (Watt): 0.05W; ComponentLink1Description: Datasheet; ComponentLink1URL: https://www.yageo.com/upload/media/product/products/datasheet/rchip/PYu-RC_Group_51_RoHS_L_12.pdf; ComponentLink2Description: Digikey link; ComponentLink2URL: https://www.digikey.com/en/products/detail/yageo/RC0201FR-071R5L/5917062; ComponentLink3Description: LCSC link; ComponentLink3URL: https://lcsc.com/product-detail/Chip-Resistor-Surface-Mount_YAGEO-RC0201FR-071R5L_C274870.html?s_z=n_RC0201FR-071R5L; Value: 1.5 Ohm; Package: 0201 (0603 Metric); Tolerance: ±1%; Operating Temperature: -55°C ~ 125°C; Supplier 1: Digikey; Supplier Part Number 1: 13-RC0201FR-071R5LCT-ND
footprint R0201
pins: 1, 2

## RC0201FR-071R6L
designator R?, comment 1.6 Ohm
RES 1.6 OHM 1% 1/20W 0201; Manufacturer: Yageo; Part Number: RC0201FR-071R6L; Power (Watt): 0.05W; ComponentLink1Description: Datasheet; ComponentLink1URL: https://www.yageo.com/upload/media/product/products/datasheet/rchip/PYu-RC_Group_51_RoHS_L_12.pdf; ComponentLink2Description: Digikey link; ComponentLink2URL: https://www.digikey.com/en/products/detail/yageo/RC0201FR-071R6L/5917064; ComponentLink3Description: LCSC link; ComponentLink3URL: *; Value: 1.6 Ohm; Package: 0201 (0603 Metric); Tolerance: ±1%; Operating Temperature: -55°C ~ 125°C; Supplier 1: Digikey; Supplier Part Number 1: RC0201FR-071R6L-ND
footprint R0201
pins: 1, 2

## RC0201FR-071R07L
designator R?, comment 1.07 Ohm
RES 1.07 OHM 1% 1/20W 0201; Manufacturer: Yageo; Part Number: RC0201FR-071R07L; Power (Watt): 0.05W; Value: 1.07 Ohm; Package: 0201 (0603 Metric); Tolerance: ±1%; Operating Temperature: -55°C ~ 125°C; ComponentLink1Description: Datasheet; ComponentLink1URL: https://www.yageo.com/upload/media/product/products/datasheet/rchip/PYu-RC_Group_51_RoHS_L_12.pdf; ComponentLink2Description: Digikey link; ComponentLink2URL: https://www.digikey.com/en/products/detail/yageo/RC0201FR-071R07L/17014804; ComponentLink3Description: LCSC link; ComponentLink3URL: https://lcsc.com/product-detail/Chip-Resistor-Surface-Mount_YAGEO-RC0201FR-071R07L_C6637869.html?s_z=n_RC0201FR-071R07L; Supplier 1: Digikey; Supplier Part Number 1: 13-RC0201FR-071R07L-ND
footprint R0201
pins: 1, 2

## RC0201FR-071R8L
designator R?, comment 1.8 Ohm
RES 1.8 OHM 1% 1/20W 0201; Manufacturer: Yageo; Part Number: RC0201FR-071R8L; Power (Watt): 0.05W; ComponentLink1Description: Datasheet; ComponentLink1URL: https://www.yageo.com/upload/media/product/products/datasheet/rchip/PYu-RC_Group_51_RoHS_L_12.pdf; ComponentLink2Description: Digikey link; ComponentLink2URL: https://www.digikey.com/en/products/detail/yageo/RC0201FR-071R8L/5917065; ComponentLink3Description: LCSC link; ComponentLink3URL: *; Value: 1.8 Ohm; Package: 0201 (0603 Metric); Tolerance: ±1%; Operating Temperature: -55°C ~ 125°C; Supplier 1: Digikey; Supplier Part Number 1: 13-RC0201FR-071R8LCT-ND
footprint R0201
pins: 1, 2

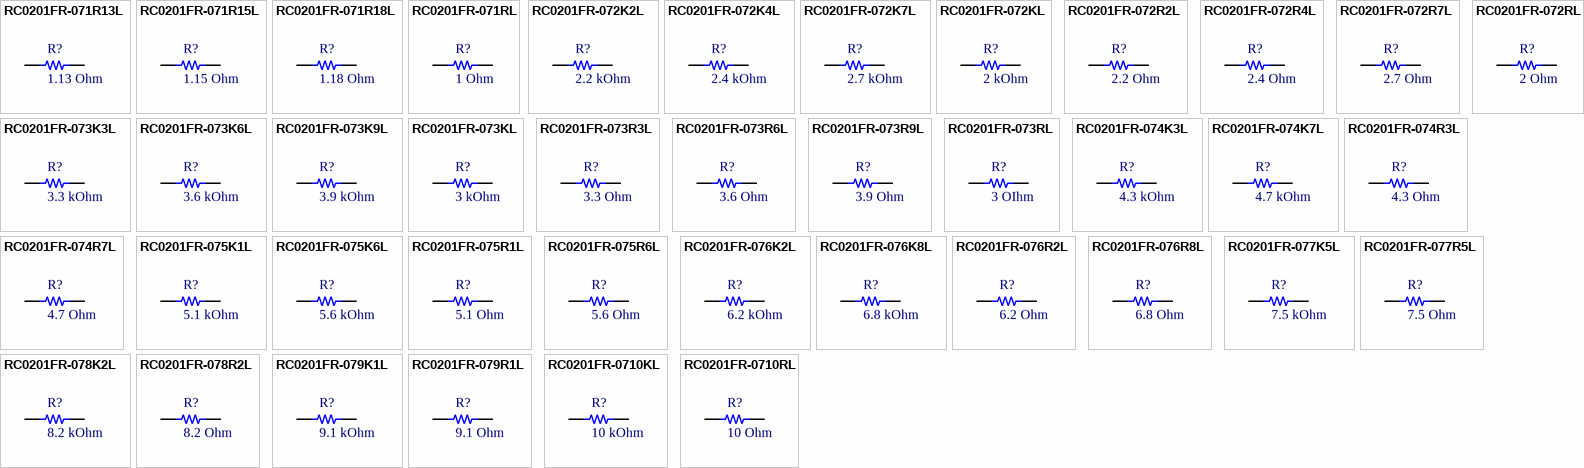
[diagram p2: symbols RC0201FR-071R13L to RC0201FR-0710RL]

## RC0201FR-071R13L
designator R?, comment 1.13 Ohm
RES 1.13 OHM 1% 1/20W 0201; Manufacturer: Yageo; Part Number: RC0201FR-071R13L; Power (Watt): 0.05W; Value: 1.13 Ohm; Package: 0201 (0603 Metric); Tolerance: ±1%; Operating Temperature: -55°C ~ 125°C; ComponentLink1Description: Datasheet; ComponentLink1URL: https://www.yageo.com/upload/media/product/products/datasheet/rchip/PYu-RC_Group_51_RoHS_L_12.pdf; ComponentLink2Description: Digikey link; ComponentLink2URL: https://www.digikey.com/en/products/detail/yageo/RC0201FR-071R13L/17015247; ComponentLink3Description: LCSC link; ComponentLink3URL: https://lcsc.com/product-detail/Chip-Resistor-Surface-Mount_YAGEO-RC0201FR-071R13L_C6961064.html?s_z=n_RC0201FR-071R13L; Supplier 1: Digikey; Supplier Part Number 1: 13-RC0201FR-071R13L-ND
footprint R0201
pins: 1, 2

## RC0201FR-071R15L
designator R?, comment 1.15 Ohm
RES 1.15 OHM 1% 1/20W 0201; Manufacturer: Yageo; Part Number: RC0201FR-071R15L; Power (Watt): 0.05W; Value: 1.15 Ohm; Package: 0201 (0603 Metric); Tolerance: ±1%; Operating Temperature: -55°C ~ 125°C; ComponentLink1Description: Datasheet; ComponentLink1URL: https://www.yageo.com/upload/media/product/products/datasheet/rchip/PYu-RC_Group_51_RoHS_L_12.pdf; ComponentLink2Description: Digikey link; ComponentLink2URL: https://www.digikey.com/en/products/detail/yageo/RC0201FR-071R15L/17013906; ComponentLink3Description: LCSC link; ComponentLink3URL: https://lcsc.com/product-detail/Chip-Resistor-Surface-Mount_YAGEO-RC0201FR-071R15L_C6263395.html?s_z=n_RC0201FR-071R15L; Supplier 1: Digikey; Supplier Part Number 1: 13-RC0201FR-071R15L-ND
footprint R0201
pins: 1, 2

## RC0201FR-071R18L
designator R?, comment 1.18 Ohm
RES 1.18 OHM 1% 1/20W 0201; Manufacturer: Yageo; Part Number: RC0201FR-071R18L; Power (Watt): 0.05W; Value: 1.18 Ohm; Package: 0201 (0603 Metric); Tolerance: ±1%; Operating Temperature: -55°C ~ 125°C; ComponentLink1Description: Datasheet; ComponentLink1URL: https://www.yageo.com/upload/media/product/products/datasheet/rchip/PYu-RC_Group_51_RoHS_L_12.pdf; ComponentLink2Description: Digikey link; ComponentLink2URL: https://www.digikey.com/en/products/detail/yageo/RC0201FR-071R18L/17011841; ComponentLink3Description: LCSC link; ComponentLink3URL: https://lcsc.com/product-detail/Chip-Resistor-Surface-Mount_YAGEO-RC0201FR-071R18L_C7334186.html?s_z=n_RC0201FR-071R18L; Supplier 1: Digikey; Supplier Part Number 1: 13-RC0201FR-071R18L-ND
footprint R0201
pins: 1, 2